# Altium footprint library JDY-23.PcbLib: 1 footprints
Each footprint in its own frame and in the unit in brackets; x right, y up, seen from the top. Pads: shape width x height; smd on the part's side, far side on the other; paste and mask are expansions set on the pad; w line width, h text height; cw(c..) or ccw(c..) is an arc to the next point about the centre after c.
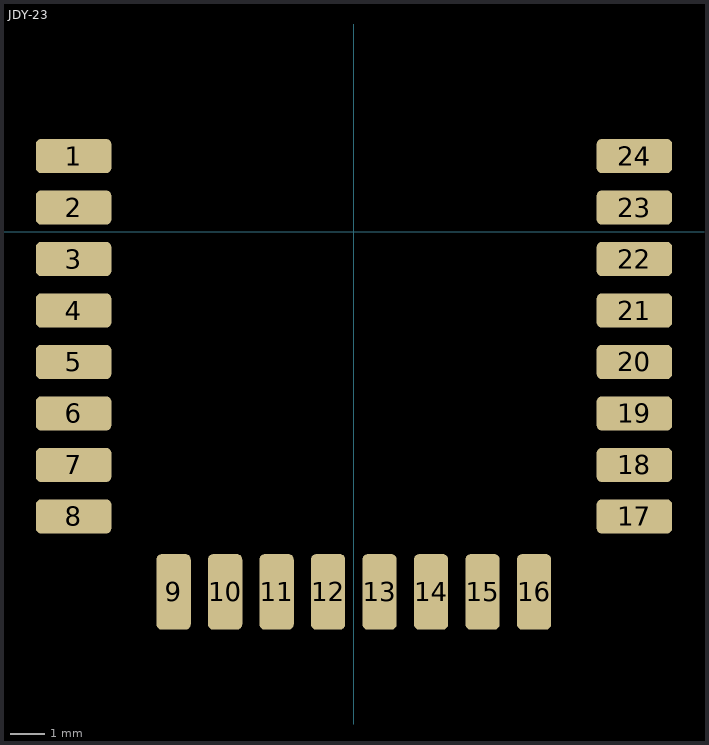
[diagram p0: the footprint, top view; thin cyan lines are the x and y axes]

## JDY-23 [mm]
pads (24):
  rrect30% 2.2x1 smd: 1(-8.165,2.2) 2(-8.165,0.7) 3(-8.165,-0.8) 4(-8.165,-2.3) 5(-8.165,-3.8) 6(-8.165,-5.3) 7(-8.165,-6.8) 8(-8.165,-8.3) 17(8.175,-8.3) 18(8.175,-6.8) 19(8.175,-5.3) 20(8.175,-3.8) 21(8.175,-2.3) 22(8.175,-0.8) 23(8.175,0.7) 24(8.175,2.2)
  rrect30% 1x2.2 smd: 9(-5.25,-10.5) 10(-3.75,-10.5) 11(-2.25,-10.5) 12(-0.75,-10.5) 13(0.75,-10.5) 14(2.25,-10.5) 15(3.75,-10.5) 16(5.25,-10.5)
3D body: height 0.6, standoff 0.4, extent -7,4 7,9.5
3D body: height 1, standoff 0.4, extent -3.2,-5.2 3.2,1.2
3D body: height 0.5, standoff 0, extent -7.475,-9.8 7.475,9.8